# Altium schematic symbol library MPQ20051DQ-AEC1-LF-P.SchLib: 1 symbol
Pins are listed as number, name and electrical type; pins without a type are passive.

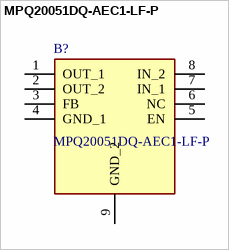
[diagram p0: symbol MPQ20051DQ-AEC1-LF-P]

## MPQ20051DQ-AEC1-LF-P
designator B?
LDO Voltage Regulators Auto Grade,Low Noise PSRR1A Linear Rgltr; Manufacturer_Name: Monolithic Power Systems (MPS); Geometry.Height: 1mm; Mouser Part Number: 946-MP20051DQAEC1LFP; Mouser Price/Stock: https://www.mouser.co.uk/ProductDetail/Monolithic-Power-Systems-MPS/MPQ20051DQ-AEC1-LF-P?qs=IW9Tsl75qsWIqwkY02mOMw%3D%3D; Manufacturer_Part_Number: MPQ20051DQ-AEC1-LF-P; Datasheet Link: https://www.monolithicpower.com/pub/media/document/MPQ20051_r1.0.pdf
footprint SON65P300X300X100-9N-D
pins: 1 OUT_1, 2 OUT_2, 3 FB, 4 GND_1, 5 EN, 6 NC, 7 IN_1, 8 IN_2, 9 GND_2